# EAGLE library part LMR33640DDDAR (library SamacSys_Parts)
Switching Voltage Regulators SIMPLE SWITCHER 3.8-V to 36-V, 4-A step-down converter in SOIC-8 package 8-SO PowerPAD -40 to 125 Source: Datasheet <https://www.ti.com/lit/gpn/LMR33640>
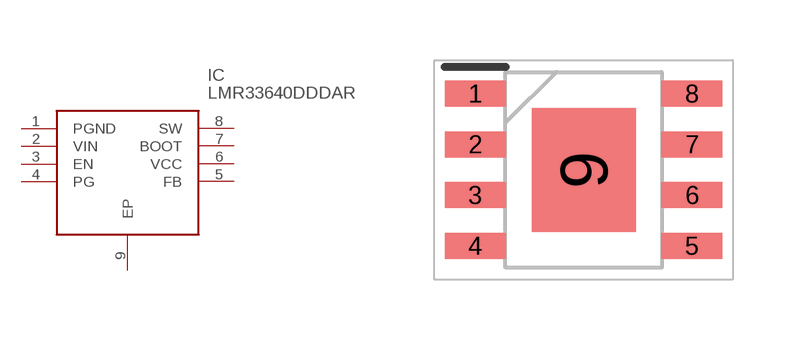
[diagram p13: symbol with the pads of SOIC127P600X170-9N; footprint SOIC127P600X170-9N]

Designator prefix IC

## LMR33640DDDAR (DESCRIPTION: Switching Voltage Regulators SIMPLE SWITCHER 3.8-V to 36-V, 4-A step-down converter in SOIC-8 package 8-SO PowerPAD -40 to 125; HEIGHT: 1.7mm; MANUFACTURER_NAME: Texas Instruments; MANUFACTURER_PART_NUMBER: LMR33640DDDAR; MOUSER_PART_NUMBER: 595-LMR33640DDDAR; MOUSER_PRICE-STOCK: https://www.mouser.co.uk/ProductDetail/Texas-Instruments/LMR33640DDDAR/?qs=wnTfsH77Xs4APrSXlTODHA%3D%3D)  [SOIC127P600X170-9N]
1  PGND
2  VIN
3  EN
4  PG
5  FB
6  VCC
7  BOOT
8  SW
9  EP

## Footprint SOIC127P600X170-9N (pad centres in mm)
DDA0008J
smd 1.525 x 0.65: 1 -2.712,1.905; 2 -2.712,0.635; 3 -2.712,-0.635; 4 -2.712,-1.905; 5 2.712,-1.905; 6 2.712,-0.635; 7 2.712,0.635; 8 2.712,1.905
smd 2.6 x 3.1: 9 0,0